# Altium footprint library SparkFun-Coils.PCBLIB: 32 footprints (part 2 of 2)
Each footprint in its own frame and in the unit in brackets; x right, y up, seen from the top. Pads: shape width x height; smd on the part's side, far side on the other; paste and mask are expansions set on the pad; w line width, h text height; cw(c..) or ccw(c..) is an arc to the next point about the centre after c.
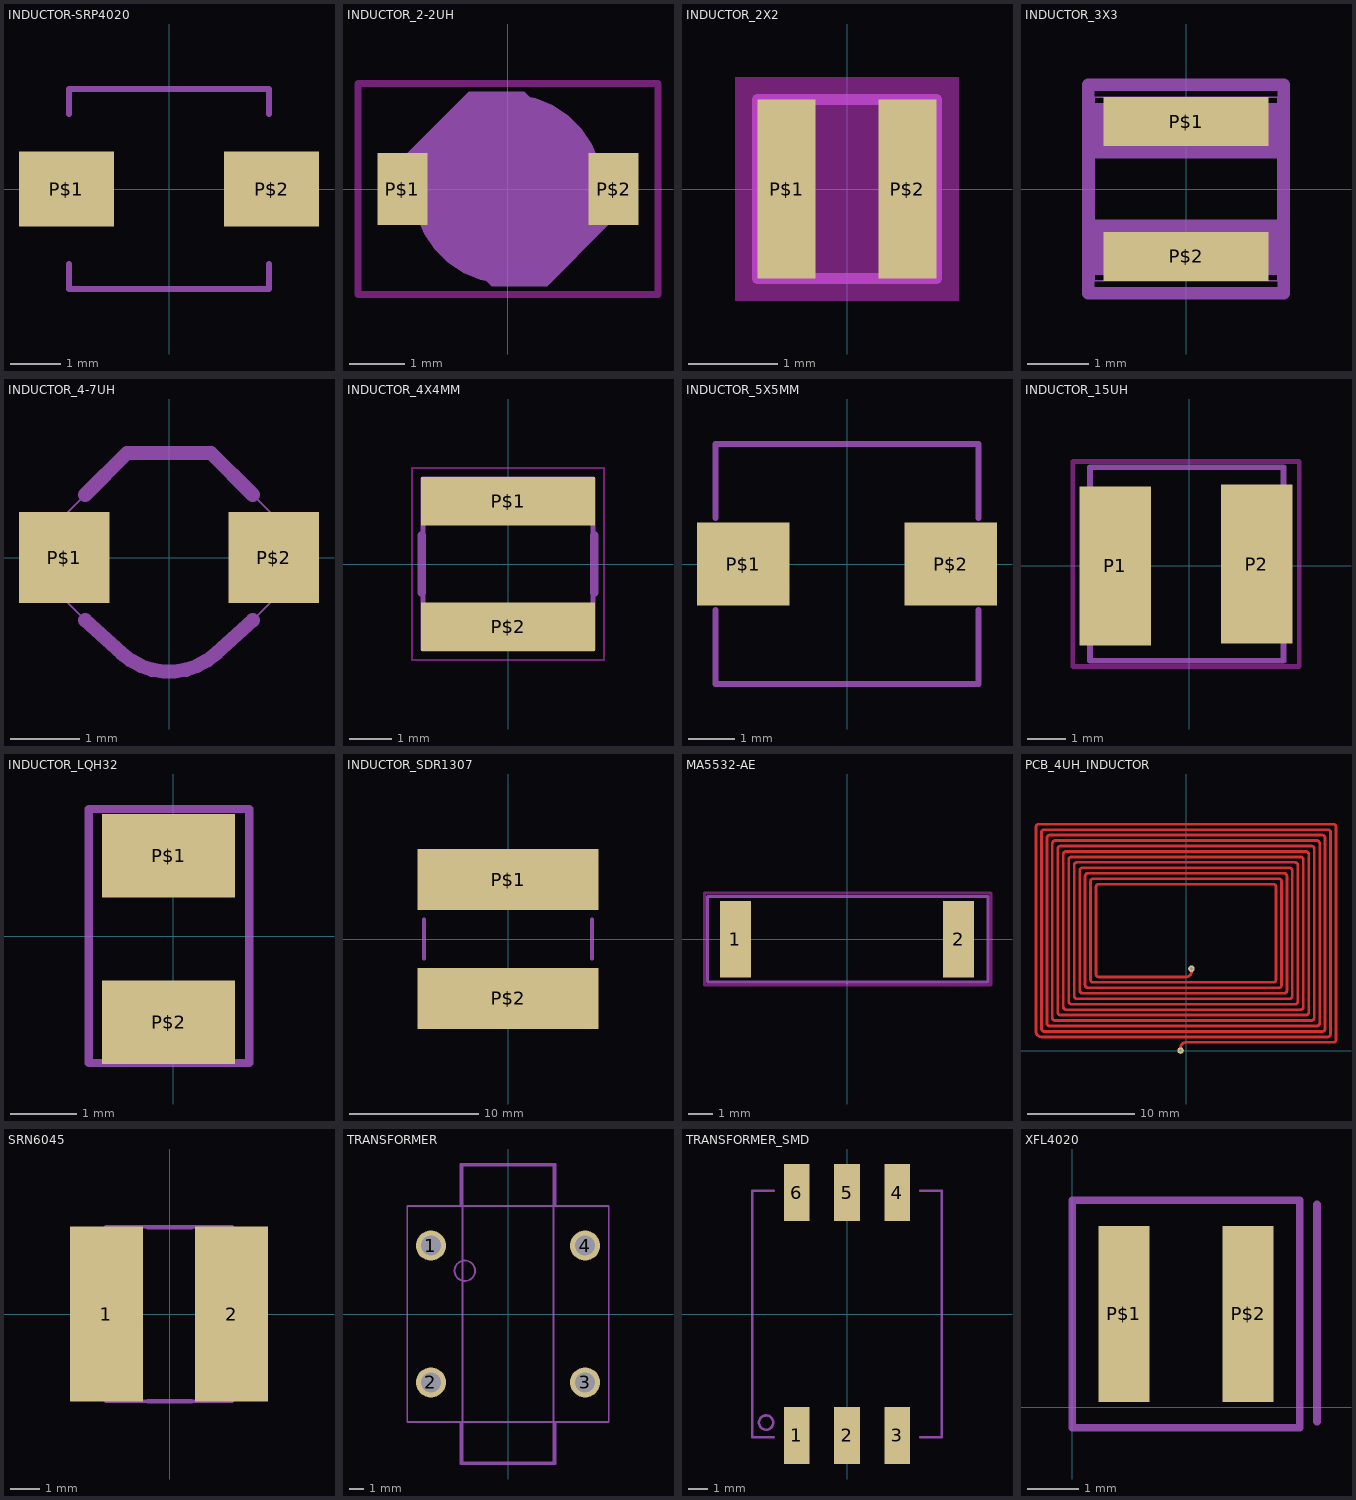
[diagram p1: the footprints below, top view; thin cyan lines are the x and y axes]

## INDUCTOR-SRP4020 [mm]
pads (2):
  rect 1.9x1.5 smd: P$1(-2.05,0) P$2(2.05,0)
tPlace:
  lines w0.127: -2,-1.5 -2,-2 2,-2 2,-1.5 ; -2,1.5 -2,2 2,2 2,1.5

## INDUCTOR_2-2UH [mm]
pads (2):
  rect 0.9x1.3 smd: P$1(-1.9,0) P$2(1.9,0)
Top keep-out:
  lines w0.127: -2.7,-1.9 2.7,-1.9 2.7,1.9 -2.7,1.9 -2.7,-1.9
tDocu:
  region: 0,-1.7 -0.167,-1.7 -0.496,-1.635 -0.805,-1.507 -1.084,-1.32 -1.32,-1.084 -1.507,-0.805 -1.635,-0.496 -1.7,-0.167 -1.7,0 -1.7,0.167 -1.635,0.496 -1.507,0.805 -1.32,1.084 -1.084,1.32 -0.805,1.507 -0.496,1.635 -0.167,1.7 0,1.7 0.167,1.7 0.496,1.635 0.805,1.507 1.084,1.32 1.32,1.084 1.507,0.805 1.635,0.496 1.7,0.167 1.7,0 1.7,-0.167 1.635,-0.496 1.507,-0.805 1.32,-1.084 1.084,-1.32 0.805,-1.507 0.496,-1.635 0.167,-1.7 0,-1.7
  region: -1.85,0.55 1.85,0.55 1.85,-0.55 -1.85,-0.55
  region: -1.8,0.5 -1.8,0.654 -0.703,1.75 0.294,1.75 0.5,1.545 0.5,0.5
  region: 1.8,-0.5 1.8,-0.654 0.703,-1.75 -0.294,-1.75 -0.5,-1.545 -0.5,-0.5

## INDUCTOR_2X2 [mm]
pads (2):
  rect 0.65x2 smd: P$1(-0.675,0) P$2(0.675,0)
Top keep-out:
  region: -1.25,-1.25 -1.25,1.25 1.25,1.25 1.25,-1.25
tDocu:
  lines w0.127: -1,-1 -1,1 1,1 1,-1 -1,-1
tPlace:
  lines w0.127: -0.25,-1 0.25,-1 ; -0.25,1 0.25,1

## INDUCTOR_3X3 [mil]
pads (2):
  rect 106.3x31.5 smd: P$1(0,43.31) P$2(0,-43.31)
tDocu:
  region: -59.06,19.69 -59.06,55.12 59.06,55.12 59.06,19.69
  region: 59.06,-19.69 59.06,-55.12 -59.06,-55.12 -59.06,-19.69
  lines w1: -59.06,-59.06 59.06,-59.06 59.06,59.06 -59.06,59.06 -59.06,-59.06
tPlace:
  lines w8: -62.99,-66.93 -62.99,66.93 62.99,66.93 62.99,-66.93 -62.99,-66.93

## INDUCTOR_4-7UH [mm]
pads (2):
  rect 1.3x1.3 smd: P$1(-1.5,0) P$2(1.5,0)
tDocu:
  lines w0.03: -1.5,-0.6 -0.707,-1.393 ccw(c0,-0.686) 0.707,-1.393 1.5,-0.6 1.5,0.6 0.6,1.5 -0.6,1.5 -1.5,0.6 -1.5,-0.6
tPlace:
  lines w0.203: -1.2,-0.9 -0.678,-1.374 ccw(c0,-0.639) 0.678,-1.374 1.2,-0.9 ; -1.2,0.9 -0.6,1.5 0.6,1.5 1.2,0.9

## INDUCTOR_4X4MM [mil]
pads (2):
  rect 161x45 smd: P$1(0,58) P$2(0,-58)
Top keep-out:
  lines w2: -88.5,-88.5 88.5,-88.5 88.5,88.5 -88.5,88.5 -88.5,-88.5
tDocu:
  lines w5: -78.5,-78.5 -78.5,78.5 78.5,78.5 78.5,-78.5 -78.5,-78.5
tPlace:
  lines w8: -79.69,-26.56 -79.69,26.56 ; 79.69,-26.56 79.69,26.56

## INDUCTOR_5X5MM [mm]
pads (2):
  rect 2x1.8 smd: P$1(-2.25,0) P$2(2.25,0)
tPlace:
  lines w0.127: -2.85,-1 -2.85,-2.6 2.85,-2.6 2.85,-1 ; -2.85,1 -2.85,2.6 2.85,2.6 2.85,1

## INDUCTOR_15UH [mm]
pads (2):
  rect 1.85x4.1 smd: P1(-1.905,0) P2(1.745,0.05)
Top keep-out:
  lines w0.127: -3.005,-2.6 -3.005,2.7 2.845,2.7 2.845,-2.6 -3.005,-2.6
tDocu:
  lines w0.152: -2.56,-2.45 2.44,-2.45 2.44,2.55 -2.56,2.55 -2.56,-2.45
tPlace:
  lines w0.127: -1.905,-2.45 2.095,-2.45 ; -1.905,2.55 2.095,2.55

## INDUCTOR_LQH32 [mm]
pads (2):
  rect 2x1.25 smd: P$1(-0.07,1.205) P$2(-0.07,-1.295)
tDocu:
  lines w0.127: -1.27,-1.905 -1.27,1.905 1.143,1.905 1.143,-1.905 -1.27,-1.905

## INDUCTOR_SDR1307 [mm]
pads (2):
  rect 14x4.75 smd: P$1(0,4.6) P$2(0,-4.6)
tPlace:
  lines w0.305: -6.5,-1.5 -6.5,1.5 ; 6.5,-1.5 6.5,1.5

## MA5532-AE [mil]
pads (2):
  rect 51.18x126 smd: 1(-183.07,0) 2(183.07,0)
Top keep-out:
  lines w5: -233.87,-75 -233.87,76 236.13,76 236.13,-75 -233.87,-75
tDocu:
  lines w5: -228.87,-70 231.13,-70 231.13,70 -228.87,70 -228.87,-70

## PCB_4UH_INDUCTOR [mil]
pads (2):
  round 24 hole 12: IN1(20,300) IN2(-20,0)
Top:
  lines w10: -20,0 -20,10 cw(c0,10) 0,30 540,30 ccw(c540,40) 550,40 550,820 ccw(c540,820) 540,830 -540,830 ccw(c-540,820) -550,820 -550,70 ccw(c-530,70) -530,50 520,50 ccw(c520,60) 530,60 530,800 ccw(c520,800) 520,810 -520,810 ccw(c-520,800) -530,800 -530,80 ccw(c-520,80) -520,70 500,70 ccw(c500,80) 510,80 510,780 ccw(c500,780) 500,790 -500,790 ccw(c-500,780) -510,780 -510,100 ccw(c-500,100) -500,90 480,90 ccw(c480,100) 490,100 490,760 ccw(c480,760) 480,770 -480,770 ccw(c-480,760) -490,760 -490,120 ccw(c-480,120) -480,110 460,110 ccw(c460,120) 470,120 470,740 ccw(c460,740) 460,750 -460,750 ccw(c-460,740) -470,740 -470,140 ccw(c-460,140) -460,130 440,130 ccw(c440,140) 450,140 450,720 ccw(c440,720) 440,730 -440,730 ccw(c-440,720) -450,720 -450,160 ccw(c-440,160) -440,150 420,150 ccw(c420,160) 430,160 430,700 ccw(c420,700) 420,710 -420,710 ccw(c-420,700) -430,700 -430,180 ccw(c-420,180) -420,170 400,170 ccw(c400,180) 410,180 410,680 ccw(c400,680) 400,690 -400,690 ccw(c-400,680) -410,680 -410,200 ccw(c-400,200) -400,190 380,190 ccw(c380,200) 390,200 390,660 ccw(c380,660) 380,670 -380,670 ccw(c-380,660) -390,660 -390,220 ccw(c-380,220) -380,210 360,210 ccw(c360,220) 370,220 370,640 ccw(c360,640) 360,650 -360,650 ccw(c-360,640) -370,640 -370,240 ccw(c-360,240) -360,230 340,230 ccw(c340,240) 350,240 350,620 ccw(c340,620) 340,630 -340,630 ccw(c-340,620) -350,620 -350,260 ccw(c-340,260) -340,250 320,250 ccw(c320,260) 330,260 330,600 ccw(c320,600) 320,610 -320,610 ccw(c-320,600) -330,600 -330,280 ccw(c-320,280) -320,270 0,270 ccw(c0,290) 20,290 20,300

## SRN6045 [mm]
pads (2):
  rect 2.5x6 smd: 1(-2.175,0) 2(2.125,0)
tDocu:
  lines w0.127: -3.175,-2 -2.175,-3 2.125,-3 3.125,-2 3.125,2 2.125,3 -2.175,3 -3.175,2 -3.175,-2
tPlace:
  lines w0.152: -0.762,-3 0.762,-3 ; -0.762,2.969 0.762,2.969

## TRANSFORMER [mm]
pads (4):
  round 2.1 hole 1.4: 1(-5.35,4.75) 2(-5.35,-4.75) 3(5.35,-4.75) 4(5.35,4.75)
tDocu:
  lines w0.127: -3.15,-10.3 -3.15,10.3 3.15,10.3 3.15,-10.3 -3.15,-10.3
tPlace:
  circle w0.127: c-3,3 r0.71
  lines w0.127: -3.302,-7.518 -3.302,-10.414 3.302,-10.414 3.302,-7.518 ; -3.302,7.544 -3.302,10.414 3.302,10.414 3.302,7.518 ; -7,-7.5 -7,7.5 7,7.5 7,-7.5 -7,-7.5

## TRANSFORMER_SMD [mm]
pads (6):
  rect 1.3x2.9 smd: 1(-2.54,-6.15) 2(0,-6.15) 3(2.54,-6.15) 4(2.54,6.15) 5(0,6.15) 6(-2.54,6.15)
tPlace:
  circle w0.127: c-4.1,-5.5 r0.36
  lines w0.127: -3.7,-6.25 -4.8,-6.25 -4.8,6.25 -3.7,6.25 ; 3.7,-6.25 4.8,-6.25 4.8,6.25 3.7,6.25

## XFL4020 [mm]
pads (2):
  rect 0.98x3.4 smd: P$1(1,1.8) P$2(3.4,1.8)
tDocu:
  lines w0.152: 0,-0.4 0,4 4.4,4 4.4,-0.4 0,-0.4
tPlace:
  lines w0.152: 4.736,-0.281 4.736,3.919